# Altium footprint library PCB.PcbLib: 16 footprints
Each footprint in its own frame and in the unit in brackets; x right, y up, seen from the top. Pads: shape width x height; smd on the part's side, far side on the other; paste and mask are expansions set on the pad; w line width, h text height; cw(c..) or ccw(c..) is an arc to the next point about the centre after c.
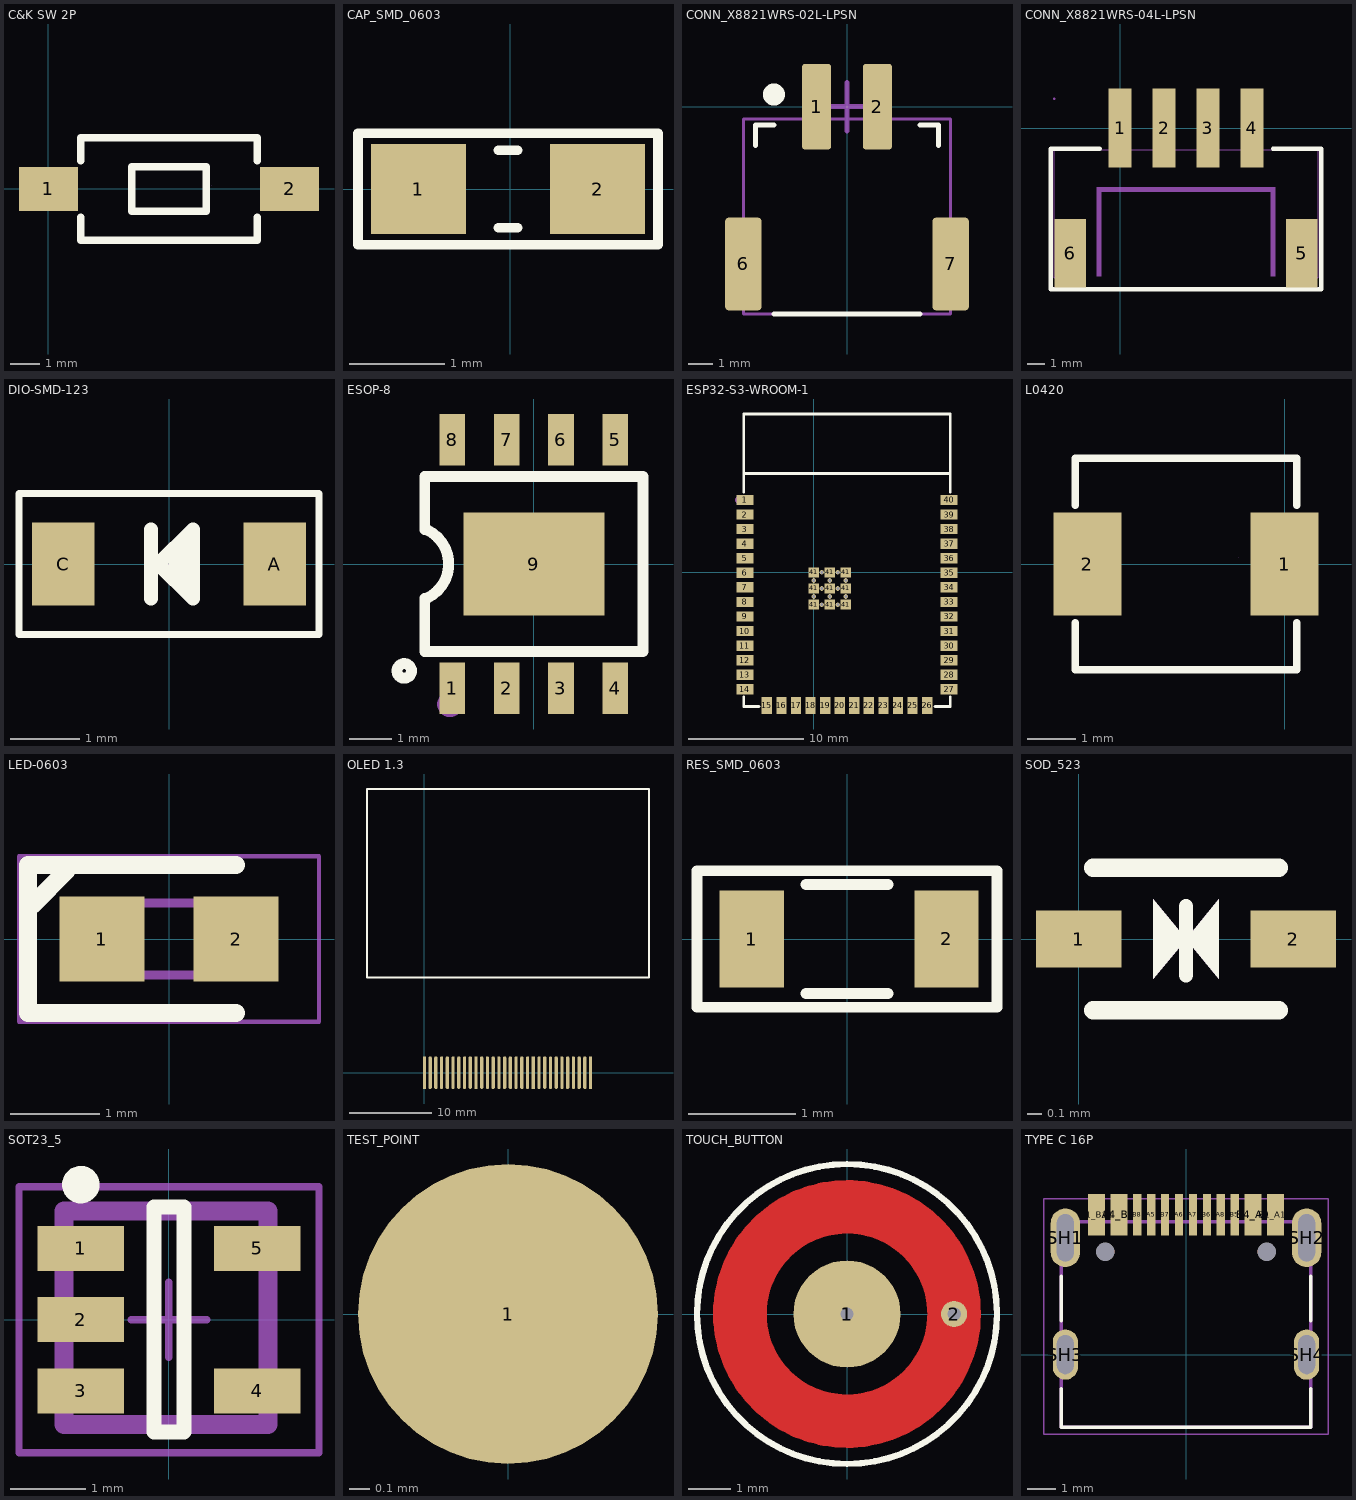
[diagram p0: the footprints below, top view; thin cyan lines are the x and y axes]

## C&K SW 2P [mm]
pads (2):
  rect 2x1.5 smd paste+0 mask+0.051: 1(0,0) 2(8.2,0)
Top Overlay:
  lines w0.254: 1.1,-0.958 1.1,-1.75 7.1,-1.75 7.1,-0.958 ; 1.1,0.958 1.1,1.75 7.1,1.75 7.1,0.958 ; 2.83,-0.762 5.37,-0.762 5.37,0.762 2.83,0.762 2.83,-0.762
Top Component Center:
  lines w0.003: 5.56,0.127 5.561,0.127
3D body "RS-282G05A3-SM_RT.stp": height 2.5, standoff 0, extent 0.064,-1.8 8.064,1.8

## CAP_SMD_0603 [mm]
pads (2):
  rect 1x0.95 smd mask+0.076: 1(-0.965,0) 2(0.914,0)
Top Overlay:
  lines w0.102: -0.127,-0.406 0.076,-0.406 ; -0.127,0.406 0.076,0.406 ; -1.6,-0.584 -1.6,0.584 1.549,0.584 1.549,-0.584 -1.6,-0.584
Mechanical 13:
  lines w0.1: -0.775,-0.4 -0.775,0.4 ; 0.825,-0.4 0.825,0.4
3D body "User Library-CAPC1608X09.step": height 0.9, standoff 0, extent -0.8,-0.394 0.8,0.406

## CONN_X8821WRS-02L-LPSN [mm]
pads (4):
  rrect20% 1.2x3.5 smd: 1(-1.25,0) 2(1.25,0)
  rrect20% 1.5x3.8 smd: 6(-4.25,-6.45) 7(4.25,-6.45)
Top Overlay:
  circle w0.7: c-3,0.5 r0.1
  lines w0.2: -3.75,-1.6 -3.75,-0.75 -3,-0.75 ; -3,-8.5 3,-8.5 ; 3,-0.75 3.75,-0.75 3.75,-1.6
Top Assembly:
  lines w0.127: -4.25,-8.5 -4.25,-0.5 4.25,-0.5 4.25,-8.5 -4.25,-8.5
Top Component Center:
  lines w0.2: -1,0 1,0 ; 0,-1 0,1
3D body "XH-2-SMD-H.stp": height 6.1, standoff 0.1, extent -4.975,-8.5 4.975,1.5

## CONN_X8821WRS-04L-LPSN [mm]
pads (6):
  rect 1.3x4.5 smd paste+0 mask+0.051: 1(0,0) 2(2.5,0) 3(5,0) 4(7.5,0)
  rect 1.8x3.9 smd paste+0 mask+0.051: 5(10.34,-7.12) 6(-2.84,-7.12)
Top Overlay:
  lines w0.254: -3.95,-3.989 -3.95,-1.188 -1.156,-1.188 ; -3.95,-3.846 -3.95,-9.189 11.45,-9.189 11.45,-3.989 11.45,-1.188 ; 8.702,-1.189 11.41,-1.189
Bottom Assembly:
  region: -1.33,-8.444 -1.33,-3.364 -1.076,-3.364 -1.076,-8.444
  region: 8.83,-8.444 8.83,-3.364 8.576,-3.364 8.576,-8.444
  region: -1.076,-3.364 8.576,-3.364 8.576,-3.618 -1.076,-3.618
Top Component Center:
  region: -3.69,1.679 -3.691,1.703 -3.726,1.737 -3.774,1.737 -3.809,1.703 -3.81,1.679 -3.809,1.654 -3.774,1.621 -3.726,1.621 -3.691,1.655
  region: 7.18,1.679 7.82,1.679 7.82,-1.521 7.18,-1.521
  region: 4.68,1.679 5.32,1.679 5.32,-1.521 4.68,-1.521
  region: 2.18,1.679 2.82,1.679 2.82,-1.521 2.18,-1.521
  region: -0.32,1.679 0.32,1.679 0.32,-1.521 -0.32,-1.521
  region: -2.99,-5.271 -2.69,-5.271 -2.69,-8.971 -2.99,-8.971
  region: 10.19,-5.271 10.49,-5.271 10.49,-8.971 10.19,-8.971
  lines w0.051: -3.75,-8.52 -3.75,-1.221 11.25,-1.221 11.25,-8.52 10.4,-8.521 10.4,-9.071 3.75,-9.071 -2.9,-9.071 -2.9,-8.524 -3.75,-8.52
3D body "JST-XH4-SMD.step": height 6.1, standoff 0, extent -3.817,-8.509 11.183,1.691

## DIO-SMD-123 [mm]
pads (2):
  rect 0.9x1.2 smd: A(1.524,0) C(-1.524,0)
Top Overlay:
  lines w0.102: -2.159,-1.016 2.159,-1.016 2.159,1.016 -2.159,1.016 -2.159,-1.016
  lines w0.2: -0.257,-0.5 -0.257,0.5 ; 0.093,-0.15 0.093,0.15 ; 0.243,-0.3 0.243,0.3 ; -0.157,0 0.343,0.5 0.343,-0.5 -0.157,0
3D body "User Library-SOD-123.step": height 1.25, standoff 0, extent -1.756,-0.8 1.942,0.8

## ESOP-8 [mm]
pads (9):
  rect 0.6x1.2 smd paste+0 mask+0.051: 1(-1.905,-2.908) 2(-0.635,-2.908) 3(0.635,-2.908) 4(1.905,-2.908) 5(1.905,2.908) 6(0.635,2.908) 7(-0.635,2.908) 8(-1.905,2.908)
  rect 3.3x2.4 smd paste+0 mask+0.051: 9(0,0)
Top Overlay:
  circle w0.254: c-3.03,-2.5 r0.17
  lines w0.254: -2.55,-0.8 -2.55,-2.05 2.55,-2.05 2.55,2.05 -2.55,2.05 -2.55,0.8 ; -2.5,-0.8 ccw(c-2.875,0) -2.5,0.8
Top Component Center:
  circle w0.3: c-1.96,-3.28 r0.15
3D body "step_temp.STEP": height 1.75, standoff 0, extent -2.45,-3 2.45,3

## ESP32-S3-WROOM-1 [mm]
pads (49):
  rect 1.5x0.9 smd paste+0 mask+0.05: 1(-6,6.319) 2(-6,5.049) 3(-6,3.779) 4(-6,2.509) 5(-6,1.239) 6(-6,-0.031) 7(-6,-1.301) 8(-6,-2.571) 9(-6,-3.841) 10(-6,-5.111) 11(-6,-6.381) 12(-6,-7.651) 13(-6,-8.921) 14(-6,-10.191) 27(11.8,-10.191) 28(11.8,-8.921) 29(11.8,-7.651) 30(11.8,-6.381) 31(11.8,-5.111) 32(11.8,-3.841) 33(11.8,-2.571) 34(11.8,-1.301) 35(11.8,-0.031) 36(11.8,1.239) 37(11.8,2.509) 38(11.8,3.779) 39(11.8,5.049) 40(11.8,6.319)
  rect 0.9x1.5 smd paste+0 mask+0.05: 15(-4.085,-11.59) 16(-2.815,-11.59) 17(-1.545,-11.59) 18(-0.275,-11.59) 19(0.995,-11.59) 20(2.265,-11.59) 21(3.535,-11.59) 22(4.805,-11.59) 23(6.075,-11.59) 24(7.345,-11.59) 25(8.615,-11.59) 26(9.885,-11.59)
  rect 0.9x0.9 smd paste+0 mask+0.051: 41(0,-2.8) 41(0,-1.4) 41(0,0) 41(1.4,-2.8) 41(1.4,-1.4) 41(1.4,0) 41(2.8,-2.8) 41(2.8,-1.4) 41(2.8,0)
via 0.7,-2.8 diameter 0.4 hole 0.25
via 0.7,-1.4 diameter 0.4 hole 0.25
via 0.7,0 diameter 0.4 hole 0.25
via 0,-0.7 diameter 0.4 hole 0.25
via 0,-2.1 diameter 0.4 hole 0.25
via 2.1,-2.8 diameter 0.4 hole 0.25
via 2.1,-1.4 diameter 0.4 hole 0.25
via 2.1,0 diameter 0.4 hole 0.25
via 2.8,-0.7 diameter 0.4 hole 0.25
via 2.8,-2.1 diameter 0.4 hole 0.25
via 1.4,-2.1 diameter 0.4 hole 0.25
via 1.4,-0.7 diameter 0.4 hole 0.25
Top Overlay:
  lines w0.254: -6.1,-10.872 -6.1,-11.69 -4.766,-11.69 ; -6.1,7.001 -6.1,8.41 ; -6.1,8.36 -6.1,13.81 11.9,13.81 11.9,7.001 ; -6.1,8.63 11.9,8.63 ; 10.566,-11.69 11.9,-11.69 11.9,-10.872
Top Component Center:
  circle w0.4: c-6.45,6.31 r0.2
3D body "ESP32-S3-WROOM-1.STEP": height 3.1, standoff -0.02, extent -6.098,-11.743 11.938,13.775

## L0420 [mm]
pads (2):
  rect 1.4x2.12 smd paste+0 mask+0.051: 1(0,0) 2(-4.056,0)
Top Overlay:
  lines w0.152: -4.304,-1.212 -4.304,-2.176 0.248,-2.176 0.248,-1.212 ; -4.304,1.212 -4.304,2.176 0.248,2.176 0.248,1.212
Top Component Center:
  lines w0.003: -0.949,0.127 -0.948,0.127
3D body "CIP0420.step": height 2.2, standoff 0, extent -4.182,-2 0.118,2

## LED-0603 [mm]
pads (2):
  rect 0.95x0.95 smd: 1(-0.75,0) 2(0.75,0)
Top Overlay:
  lines w0.2: -1.524,0.381 -1.143,0.762 ; 0.75,-0.825 -1.575,-0.825 -1.575,0.825 0.75,0.825
Mechanical 13:
  lines w0.05: -1.675,-0.925 1.675,-0.925 1.675,0.925 -1.675,0.925 -1.675,-0.925
  lines w0.1: -0.8,0.133 -0.533,0.4 ; -0.8,-0.4 0.8,-0.4 0.8,0.4 -0.8,0.4 -0.8,-0.4
3D body "150060GS75000--3DModel-STEP-510211.STEP": height 0.8, standoff 0, extent -0.8,-0.4 0.8,0.4

## OLED 1.3 [mm]
pads (30):
  rect 0.4x4 smd: A1(0,0) A10(6.3,0) A20(13.3,0) A30(20.3,0)
  oval 0.4x4 smd: A2(0.7,0) A3(1.4,0) A4(2.1,0) A5(2.8,0) A6(3.5,0) A7(4.2,0) A8(4.9,0) A9(5.6,0) A11(7,0) A12(7.7,0) A13(8.4,0) A14(9.1,0) A15(9.8,0) A16(10.5,0) A17(11.2,0) A18(11.9,0) A19(12.6,0) A21(14,0) A22(14.7,0) A23(15.4,0) A24(16.1,0) A25(16.8,0) A26(17.5,0) A27(18.2,0) A28(18.9,0) A29(19.6,0)
Top Overlay:
  lines w0.254: -7.036,11.608 -7.036,34.646 27.457,34.646 27.457,11.608 -7.036,11.608
3D body "ER-OLED013-1.x_t": height 1.45, standoff 0, extent -7.086,-0.406 27.414,34.594

## RES_SMD_0603 [mm]
pads (2):
  rect 0.6x0.9 smd: 1(-0.889,0) 2(0.927,0)
Top Overlay:
  lines w0.1: -0.381,-0.508 0.381,-0.508 ; -0.381,0.508 0.381,0.508 ; -1.397,-0.635 -1.397,0.635 1.397,0.635 1.397,-0.635 0.889,-0.635 -1.397,-0.635
3D body "User Library-SMD RESISTOR-1 (3).step": height 0.43, standoff -0.03, extent -0.8,-0.4 0.8,0.4

## SOD_523 [mm]
pads (2):
  rect 0.6x0.4 smd paste+0 mask+0.051: 1(0,0) 2(1.5,0)
Top Overlay:
  region: 0.75,0 0.521,-0.279 0.521,0.279
  region: 0.75,0 0.979,0.279 0.979,-0.279
  lines w0.1: 0.75,-0.254 0.75,0.229
  lines w0.13: 0.1,-0.5 1.4,-0.5 ; 0.1,0.5 1.4,0.5
Top Component Center:
  region: 0.979,0.279 0.979,-0.279 0.75,0
  region: 0.521,0.279 0.521,-0.279 0.75,0
3D body "LESD5D5.0CT1G--3DModel-STEP-510211.STEP": height 0.7, standoff 0, extent -0.038,-0.4 1.562,0.4

## SOT23_5 [mm]
pads (5):
  rect 1.15x0.6 smd: 1(-1.175,0.95) 2(-1.175,0) 3(-1.175,-0.95) 4(1.175,-0.95) 5(1.175,0.95)
Top Overlay:
  circle w0.25: c-1.175,1.8 r0.125
  lines w0.2: -0.2,-1.5 0.2,-1.5 0.2,1.5 -0.2,1.5 -0.2,-1.5
Top Assembly:
  lines w0.254: -1.397,-1.397 1.321,-1.397 1.321,1.448 -1.397,1.448 -1.397,-1.397
Top Component Center:
  lines w0.1: -0.5,0 0.5,0 ; 0,-0.5 0,0.5 ; -2,-1.775 -2,1.775 2,1.775 2,-1.775 -2,-1.775
3D body "User Library-SOT23-5-2.step": height 1.45, standoff 0, extent -1.4,-1.448 1.4,1.452

## TEST_POINT [mm]
pads (1):
  round 1.5 smd: 1(0,0)

## TOUCH_BUTTON [mm]
pads (3):
  round 0.61 hole 0.31: 1(0,0) 2(2.5,0)
  round 2.5 smd: 1(0,0)
Top Layer:
  circle w1.25: c0,0 r2.5
Top Overlay:
  circle w0.15: c0,0 r3.5
Top Solder:
  circle w0.15: c0,0 r3.2
  circle w0.15: c0,0 r1.8

## TYPE C 16P [mm]
pads (18):
  rect 0.6x1.5 smd: A1_B12(-3.2,5.004) A4_B9(-2.4,5.004) B1_A12(3.2,5.004) B4_A9(2.4,5.004)
  rect 0.3x1.5 smd: A5(-1.25,5.004) A6(-0.25,5.004) A7(0.25,5.004) A8(1.25,5.004) B5(1.75,5.004) B6(0.75,5.004) B7(-0.75,5.004) B8(-1.75,5.004)
  oval 1.05x2.1 hole 0.6 slot 1.7 at 90 deg: SH1(-4.32,4.18) SH2(4.32,4.18)
  oval 0.9x1.8 hole 0.6 slot 1.4 at 90 deg: SH3(-4.32,0) SH4(4.32,0)
  round 0.65 hole 0.65 unplated: ""(-2.89,3.68) ""(2.89,3.68)
Top Overlay:
  lines w0.127: -4.47,-1.22 -4.47,-2.6 4.47,-2.6 4.47,-1.22 ; -4.47,1.22 -4.47,2.81 ; 4.47,1.22 4.47,2.81
Mechanical 13:
  lines w0.127: -4.47,-2.6 4.47,-2.6 4.47,4.75 -4.47,4.75 -4.47,-2.6
Top Component Center:
  lines w0.05: -5.095,-2.85 -5.095,5.57 5.095,5.57 5.095,-2.85 -5.095,-2.85
3D body "Type C 16p.step": height 3.16, standoff -1.04, extent -4.505,-2.553 4.445,5.347